# Altium footprint library sen_res_5931.PcbLib: 1 footprints
Each footprint in its own frame and in the unit in brackets; x right, y up, seen from the top. Pads: shape width x height; smd on the part's side, far side on the other; paste and mask are expansions set on the pad; w line width, h text height; cw(c..) or ccw(c..) is an arc to the next point about the centre after c.
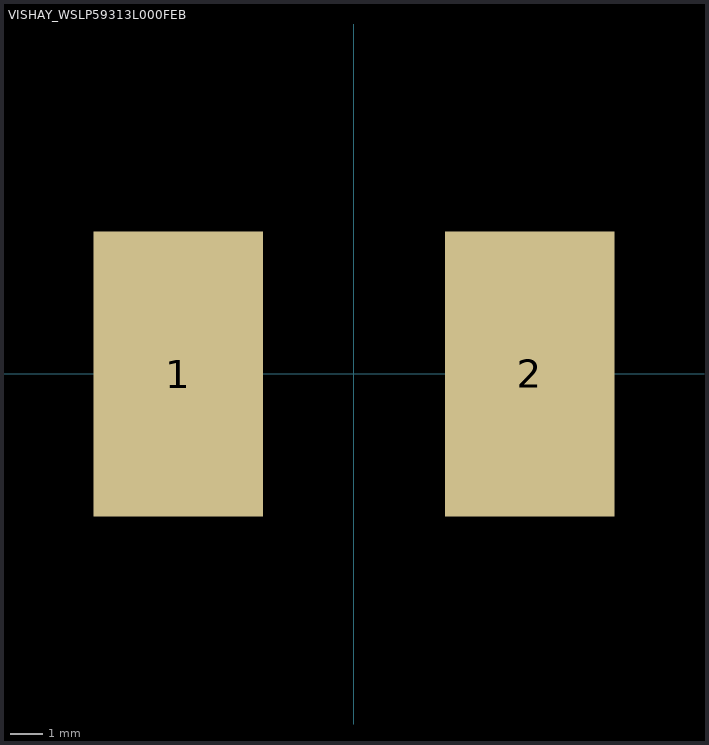
[diagram p0: the footprint, top view; thin cyan lines are the x and y axes]

## VISHAY_WSLP59313L000FEB [mm]
pads (2):
  rect 5.2x8.75 smd: 1(-5.4,-0.002) 2(5.4,0)
3D body "User Library-WSSL5931.step": height 2.32, standoff -0.03, extent -7.373,-3.813 7.627,3.937